# Altium footprint library CT-1205C.PcbLib: 1 footprints
Each footprint in its own frame and in the unit in brackets; x right, y up, seen from the top. Pads: shape width x height; smd on the part's side, far side on the other; paste and mask are expansions set on the pad; w line width, h text height; cw(c..) or ccw(c..) is an arc to the next point about the centre after c.
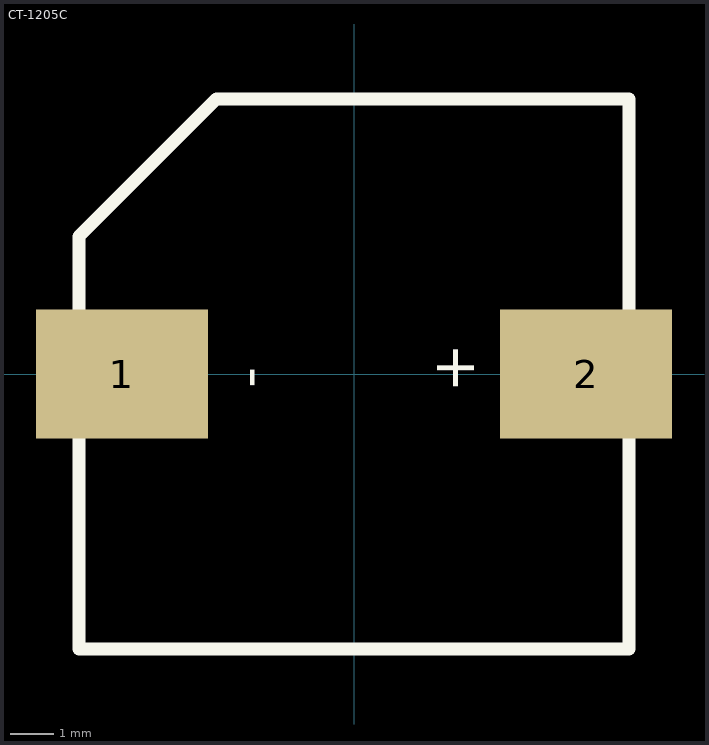
[diagram p0: the footprint, top view; thin cyan lines are the x and y axes]

## CT-1205C [mm]
pads (2):
  rect 4x3 smd: 1(-5.4,0) 2(5.4,0)
Top Overlay:
  lines w0.3: -6.4,3.2 -6.4,-6.4 6.4,-6.4 6.4,6.4 -3.2,6.4 ; -6.4,3.2 -3.2,6.4 ; -6.4,3.2 -3.2,6.4
  text "-" at -1.981,-0.33 h1
  text "+" at 2.794,-0.432 h1